# Altium footprint library CUBaja.PcbLib: 79 footprints (part 3 of 5)
Each footprint in its own frame and in the unit in brackets; x right, y up, seen from the top. Pads: shape width x height; smd on the part's side, far side on the other; paste and mask are expansions set on the pad; w line width, h text height; cw(c..) or ccw(c..) is an arc to the next point about the centre after c.
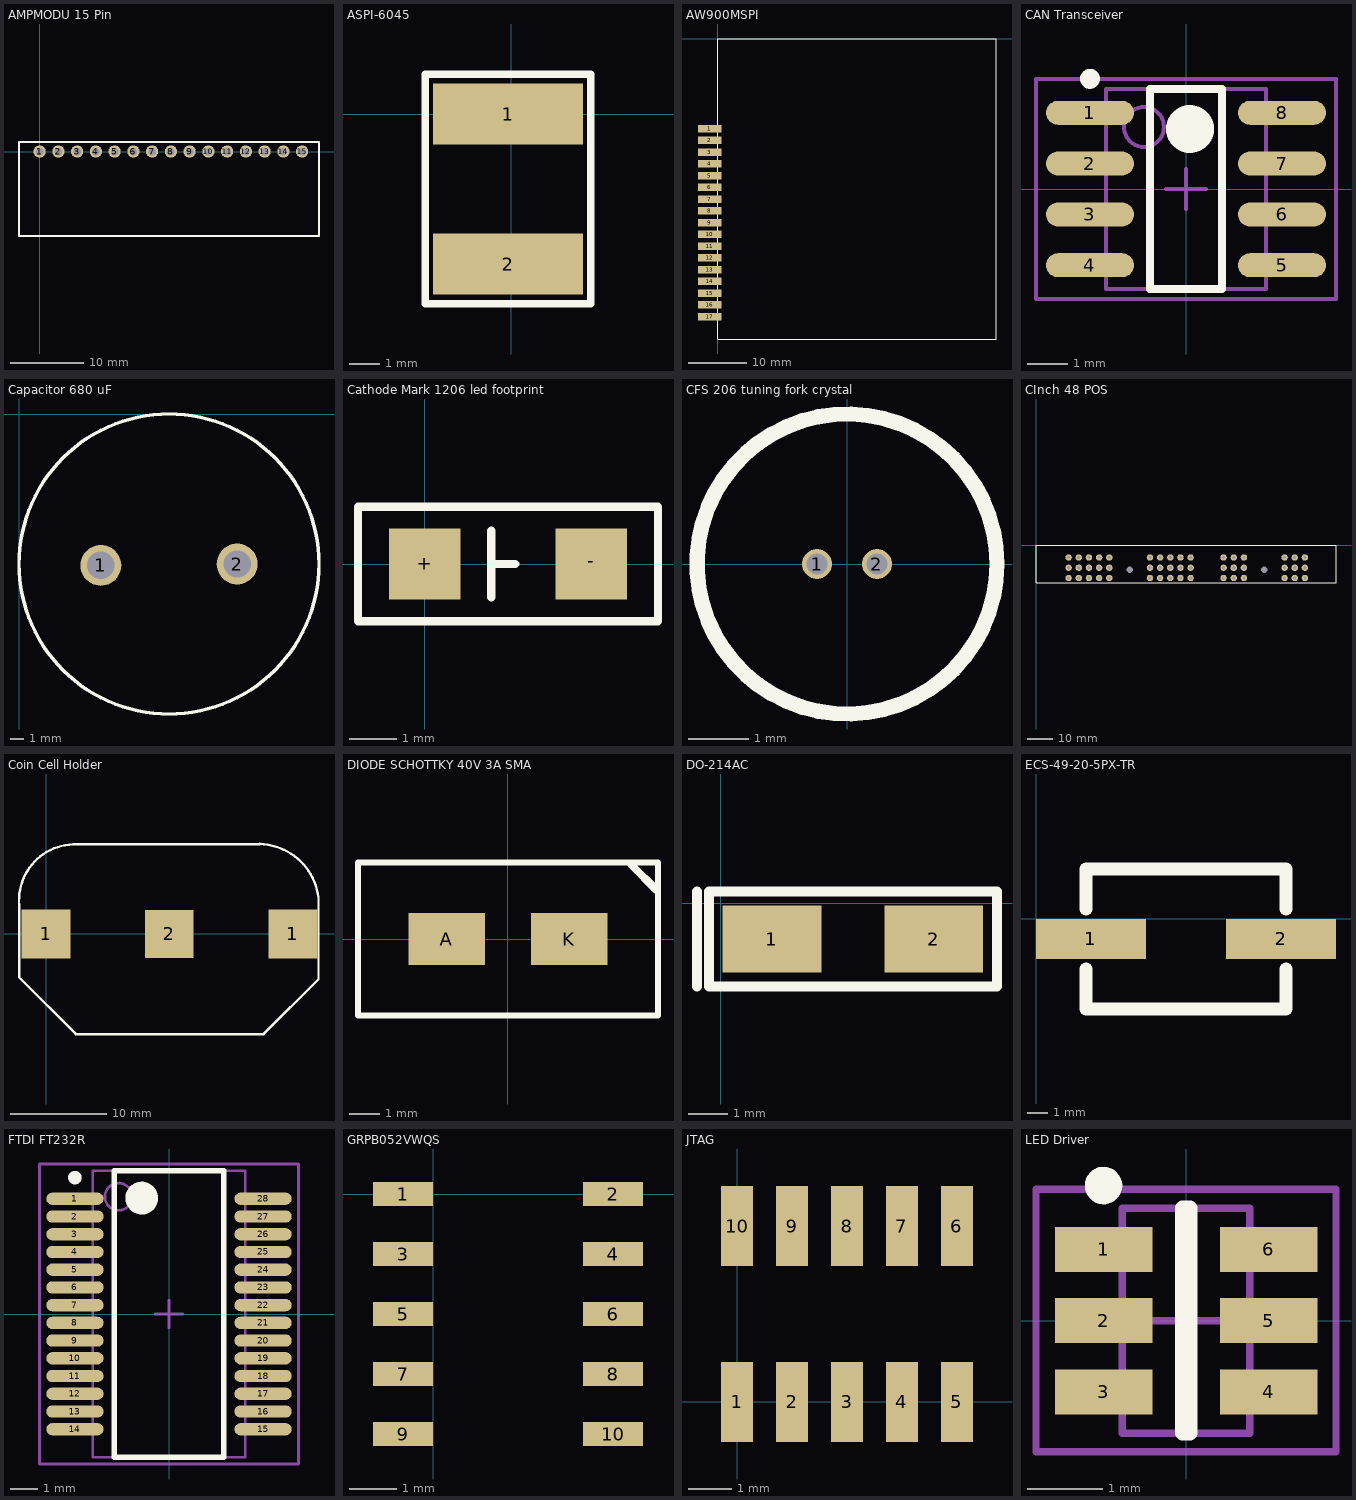
[diagram p2: the footprints below, top view; thin cyan lines are the x and y axes]

## AMPMODU 15 Pin [mil]
pads (15):
  round 65 hole 40: 1(0,0) 2(100,0) 3(200,0) 4(300,0) 5(400,0) 6(500,0) 7(600,0) 8(700,0) 9(800,0) 10(900,0) 11(1000,0) 12(1100,0) 13(1200,0) 14(1300,0) 15(1400,0)
Top Overlay:
  lines w9.84: -110,-450 -110,50 ; 1490,-450 1490,50
  lines w10: -110,-450 1490,-450 ; -110,50 1490,50

## ASPI-6045 [mm]
pads (2):
  rect 4.9x2 smd: 1(-0.1,0) 2(-0.1,-4.9)
Top Overlay:
  lines w0.25: -2.8,-6.2 -2.8,1.3 2.6,1.3 2.6,-6.2 -2.8,-6.2

## AW900MSPI [mm]
pads (17):
  rect 4x1.27 smd: 1(-1.397,-15.254) 2(-1.397,-17.254) 3(-1.397,-19.254) 4(-1.397,-21.254) 5(-1.397,-23.254) 6(-1.397,-25.254) 7(-1.397,-27.254) 8(-1.397,-29.254) 9(-1.397,-31.254) 10(-1.397,-33.254) 11(-1.397,-35.254) 12(-1.397,-37.254) 13(-1.397,-39.254) 14(-1.397,-41.254) 15(-1.397,-43.254) 16(-1.397,-45.254) 17(-1.397,-47.254)
Top Overlay:
  lines w0.178: 0,-51.054 47.371,-51.054 ; 0,-51 0,0 47.371,0 47.371,-51

## CAN Transceiver [mm] "SOIC, 8-Leads, Body 5.0x4.0mm (max), Pitch 1.27mm, IPC Medium Density"
height 1.75
pads (8):
  oval 2.2x0.6 smd: 1(-2.4,1.905) 2(-2.4,0.635) 3(-2.4,-0.635) 4(-2.4,-1.905) 5(2.4,-1.905) 6(2.4,-0.635) 7(2.4,0.635) 8(2.4,1.905)
Top Overlay:
  circle w0.6: c0.1,1.5 r0.3
  circle w0.25: c-2.4,2.755 r0.125
  lines w0.2: -0.9,-2.5 0.9,-2.5 0.9,2.5 -0.9,2.5 -0.9,-2.5
Mechanical 13:
  circle w0.1: c-1.05,1.55 r0.5
  lines w0.1: -2,-2.5 2,-2.5 2,2.5 -2,2.5 -2,-2.5
Mechanical 15:
  lines w0.1: -0.5,0 0.5,0 ; 0,-0.5 0,0.5 ; -3.75,-2.75 3.75,-2.75 3.75,2.75 -3.75,2.75 -3.75,-2.75
3D body: height 1.75, standoff 0.1, extent -2,-2.5 2,2.5

## Capacitor 680 uF [mm]
pads (2):
  round 3 hole 2: 1(6,-11.1) 2(16,-11)
Top Overlay:
  circle w0.254: c11,-11 r11

## Cathode Mark 1206 led footprint [mm] "OSRAM semiconductor"
height 1.2
pads (2):
  rect 1.5x1.5 smd: +(0,0) -(3.5,0)
Top Overlay:
  lines w0.178: 1.4,-0.7 1.4,0.7 ; 1.4,0 1.9,0 ; -1.4,-1.2 -1.4,1.2 4.9,1.2 4.9,-1.2 -1.4,-1.2

## CFS 206 tuning fork crystal [mm] "ML08 main board"
height 6
pads (2):
  round 0.5 hole 0.35: 1(-0.5,0) 2(0.5,0)
Top Overlay:
  circle w0.254: c0,0 r2.5

## CInch 48 POS [mm]
pads (50):
  round 2.5 hole 1.27: 1(12.7,-4.83) 2(16.66,-4.83) 3(20.62,-4.83) 4(24.58,-4.83) 5(28.54,-4.83) 6(44.38,-4.83) 7(48.34,-4.83) 8(52.3,-4.83) 9(56.26,-4.83) 10(60.22,-4.83) 11(12.7,-8.82) 12(16.66,-8.82) 13(20.62,-8.82) 14(24.58,-8.82) 15(28.54,-8.82) 16(44.38,-8.82) 17(48.34,-8.82) 18(52.3,-8.82) 19(56.26,-8.82) 20(60.22,-8.82) 21(12.7,-12.81) 22(16.66,-12.81) 23(20.62,-12.81) 24(24.58,-12.81) 25(28.54,-12.81) 26(44.38,-12.81) 27(48.34,-12.81) 28(52.3,-12.81) 29(56.26,-12.81) 30(60.22,-12.81) 31(73.06,-4.83) 32(77.02,-4.83) 33(80.98,-4.83) 34(96.82,-4.83) 35(100.78,-4.83) 36(104.74,-4.83) 37(73.06,-8.82) 38(77.02,-8.82) 39(80.98,-8.82) 40(96.82,-8.82) 41(100.78,-8.82) 42(104.74,-8.82) 43(73.06,-12.81) 44(77.02,-12.81) 45(80.98,-12.81) 46(96.82,-12.81) 47(100.78,-12.81) 48(104.74,-12.81)
  round 0 hole 2.54: ""(36.46,-9.53) ""(88.9,-9.53)
Top Overlay:
  lines w0.254: 0,-14.71 0,0 116.84,0 116.84,-14.71 0,-14.71

## Coin Cell Holder [mm]
height 4
pads (3):
  rect 5.08x5.08 smd: 1(0,0) 1(25.65,0)
  rect 5x5 smd: 2(12.8,0)
Top Overlay:
  lines w0.254: -2.8,3.001 -2.8,-2.7 -2.8,-4.4 -2.8,-4.5 3.1,-10.4 22.6,-10.4 28.3,-4.7 28.3,3.8 ccw(c22,3) 22.202,9.347 ; -2.786,3.001 cw(c3,3.5) 2.8,9.304 ; 2.8,9.3 22.202,9.3

## DIODE SCHOTTKY 40V 3A SMA [mm] "DIODE SCHOTTKY 40V 3A SMA"
height 3
pads (2):
  rect 2.5x1.7 smd: A(-2,0) K(2,0)
Top Overlay:
  lines w0.2: -4.9,-2.5 4.9,-2.5 4.9,2.5 -4.9,2.5 -4.9,0 -4.9,-2.5
  lines w0.254: 4.025,2.425 4.85,1.6

## DO-214AC [mm]
pads (2):
  rect 2.5x1.7 smd: 1(1.3,-0.9) 2(5.4,-0.9)
Top Overlay:
  lines w0.25: -0.6,-2.1 -0.6,0.3 ; -0.3,-2.1 -0.3,0.3 7,0.3 7,-2.1 -0.3,-2.1

## ECS-49-20-5PX-TR [mm]
pads (2):
  rect 5.5x2 smd: 1(2.75,-1) 2(12.25,-1)
Top Overlay:
  lines w0.635: 2.5,-2.5 2.5,-4.5 12.5,-4.5 12.5,-2.5 ; 2.5,0.5 2.5,2.5 12.5,2.5 12.5,0.5

## FTDI FT232R [mm] "SOP, 28-Leads, Body 10.5x5.6mm (max), Pitch 0.65mm, IPC Medium Density"
height 2
pads (28):
  oval 2.1x0.45 smd: 1(-3.45,4.225) 2(-3.45,3.575) 3(-3.45,2.925) 4(-3.45,2.275) 5(-3.45,1.625) 6(-3.45,0.975) 7(-3.45,0.325) 8(-3.45,-0.325) 9(-3.45,-0.975) 10(-3.45,-1.625) 11(-3.45,-2.275) 12(-3.45,-2.925) 13(-3.45,-3.575) 14(-3.45,-4.225) 15(3.45,-4.225) 16(3.45,-3.575) 17(3.45,-2.925) 18(3.45,-2.275) 19(3.45,-1.625) 20(3.45,-0.975) 21(3.45,-0.325) 22(3.45,0.325) 23(3.45,0.975) 24(3.45,1.625) 25(3.45,2.275) 26(3.45,2.925) 27(3.45,3.575) 28(3.45,4.225)
Top Overlay:
  circle w0.25: c-3.45,5 r0.125
  circle w0.6: c-1,4.25 r0.3
  lines w0.2: -2,-5.25 -2,5.25 2,5.25 2,-5.25 -2,-5.25
Mechanical 13:
  circle w0.1: c-1.85,4.3 r0.5
  lines w0.1: -2.8,-5.25 -2.8,5.25 2.8,5.25 2.8,-5.25 -2.8,-5.25
Mechanical 15:
  lines w0.1: -0.5,0 0.5,0 ; 0,-0.5 0,0.5 ; -4.75,-5.5 -4.75,5.5 4.75,5.5 4.75,-5.5 -4.75,-5.5
3D body: height 2, standoff 0.05, extent -2.8,-5.25 2.8,5.25

## GRPB052VWQS [mil]
pads (10):
  rect 50x20 smd: 1(-25,0) 2(150,0) 3(-25,-50) 4(150,-50) 5(-25,-100) 6(150,-100) 7(-25,-150) 8(150,-150) 9(-25,-200) 10(150,-200)

## JTAG [mil]
pads (10):
  rect 29x73 smd: 1(0,0) 2(50,0) 3(100,0) 4(150,0) 5(200,0) 6(200,160) 7(150,160) 8(100,160) 9(50,160) 10(0,160)

## LED Driver [mm] "SOT23, 6-Leads, Body 3.0x3.0mm (max), Pitch 0.95mm, IPC Medium Density"
height 1.35
pads (6):
  rect 1.3x0.6 smd: 1(-1.1,0.95) 2(-1.1,0) 3(-1.1,-0.95) 4(1.1,-0.95) 5(1.1,0) 6(1.1,0.95)
Top Overlay:
  circle w0.25: c-1.1,1.8 r0.125
  lines w0.2: -0.05,-1.5 -0.05,1.5 0.05,1.5 0.05,-1.5 -0.05,-1.5
Mechanical 13:
  lines w0.1: -0.85,-1.5 0.85,-1.5 0.85,1.5 -0.85,1.5 -0.85,-1.5
Mechanical 15:
  lines w0.1: -0.5,0 0.5,0 ; 0,-0.5 0,0.5 ; -2,-1.75 2,-1.75 2,1.75 -2,1.75 -2,-1.75
3D body: height 1.35, standoff 0.05, extent -0.85,-1.5 0.85,1.5